# Altium schematic symbol library symbols.SchLib: 88 symbols
Pins are listed as number, name and electrical type; pins without a type are passive.

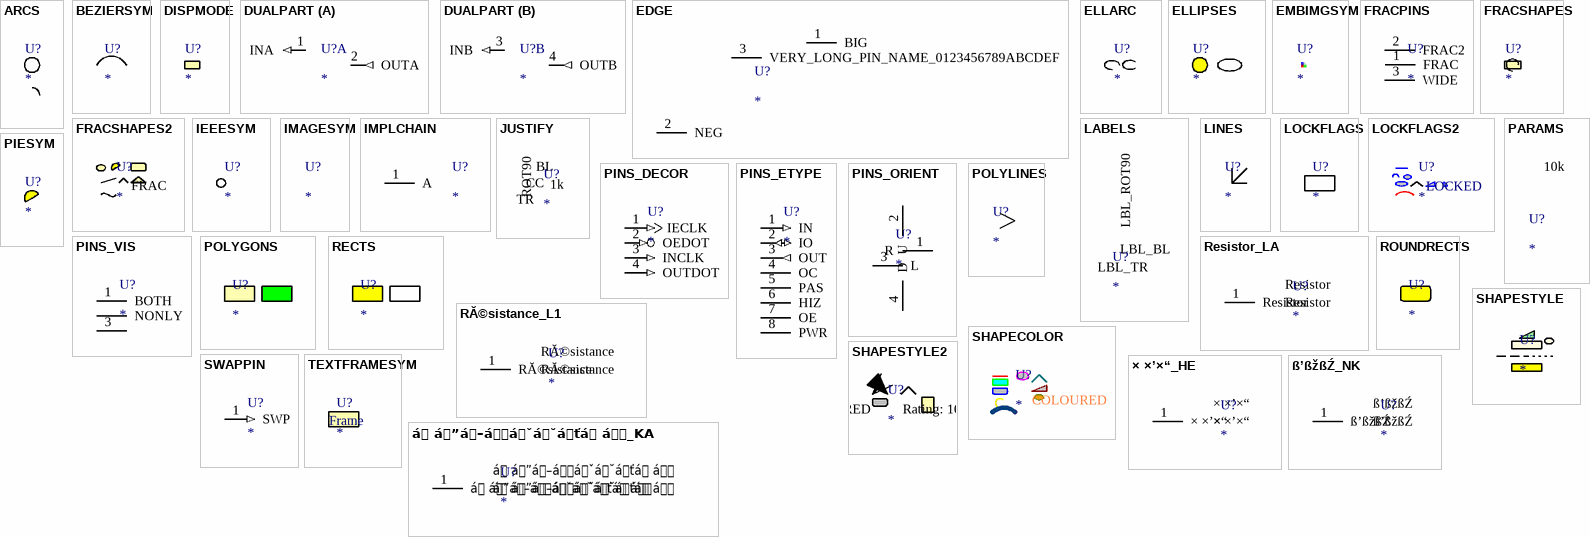
[diagram p0: symbols ARCS to á á”á–ááˇá˘áťá á_KA]

## ARCS
designator U?
Arcs: full circle + quarter

## BEZIERSYM
designator U?
Bezier curve

## DISPMODE
designator U?
Alternate display mode
1 alternate drawing of the same symbol

## DUALPART
designator U?
Dual-part test symbol
part A pins: 1 INA (in), 2 OUTA (out)
part B pins: 3 INB (in), 4 OUTB (out)

## EDGE
designator U?
Boundary-case pins
pins: 1 BIG, 2 NEG, 3 VERY_LONG_PIN_NAME_0123456789ABCDEF

## ELLARC
designator U?
Elliptical arcs

## ELLIPSES
designator U?
Ellipses: circle + ellipse

## EMBIMGSYM
designator U?
Embedded image

## FRACPINS
designator U?
Off-grid pins + symbol line width
pins: 1 FRAC, 2 FRAC2, 3 WIDE

## FRACSHAPES
designator U?
Off-grid shapes

## FRACSHAPES2
designator U?
Off-grid shapes, every other kind
text: FRAC

## IEEESYM
designator U?
IEEE symbols

## IMAGESYM
designator U?
Linked image

## IMPLCHAIN
designator U?
Footprint model links
footprint SOIC-8 (Narrow body)
footprint SOIC-8-WIDE
footprint DIP-8 (Through-hole)
pins: 1 A

## JUSTIFY
designator U?  value 1k
Label / parameter justification + rotation; Tol: 5%
text: BL; CC; TR; ROT90

## LABELS
designator U?
Text labels: justify + rotate
text: LBL_ROT90; LBL_BL; LBL_TR

## LINES
designator U?
Lines: horizontal/vertical/diagonal

## LOCKFLAGS
designator U?
Graphically locked / disabled / dimmed shape

## LOCKFLAGS2
designator U?
Graphically locked shapes
text: LOCKED

## PARAMS
designator U?  value 10k
Component parameters: visible + hidden

## PIESYM
designator U?
Filled pie sector

## PINS_DECOR
designator U?
Pin decoration symbols
pins: 1 IECLK (in), 2 OEDOT (in), 3 INCLK (in), 4 OUTDOT (in)

## PINS_ETYPE
designator U?
One pin per electrical type
pins: 1 IN (in), 2 IO (io), 3 OUT (out), 4 OC (oc), 5 PAS, 6 HIZ (hiz), 7 OE (oe), 8 PWR (power)

## PINS_ORIENT
designator U?
One pin per orientation
pins: 1 R, 2 U, 3 L, 4 D

## PINS_VIS
designator U?
Pin visibility combinations
pins: 1 BOTH, 2 NONLY, 3 DONLY, 4 HIDE hidden

## POLYGONS
designator U?
Filled polygon boxes

## POLYLINES
designator U?
Open 3-point polyline

## RECTS
designator U?
Rectangles: filled + unfilled

## Resistor_LA
designator U?  value Resistor
Script: Latin, ASCII control
pins: 1 Resistor

## ROUNDRECTS
designator U?
Rounded rectangle

## RĂ©sistance_L1
designator U?  value RĂ©sistance
Script: Latin-1 supplement, precomposed
pins: 1 RĂ©sistance

## SHAPECOLOR
designator U?
Non-default colour on every shape
text: COLOURED

## SHAPESTYLE
designator U?
Non-default line style + transparent fills

## SHAPESTYLE2
designator U?  Rating: 10V
Remaining shape styling properties
text: FRAME2; MIRRORED

## SWAPPIN
designator U?
Pin swap ids + default value
pins: 1 SWP (in)

## TEXTFRAMESYM
designator U?
Text frame
text: Frame text

## × ×’×“_HE
designator U?  value × ×’×“
Script: Hebrew, right to left
pins: 1 × ×’×“

## ß’ßžßŹ_NK
designator U?  value ß’ßžßŹ
Script: N'Ko, right to left
pins: 1 ß’ßžßŹ

## á á”á–ááˇá˘áťá á_KA
designator U?  value á á”á–ááˇá˘áťá á
Script: Georgian
pins: 1 á á”á–ááˇá˘áťá á

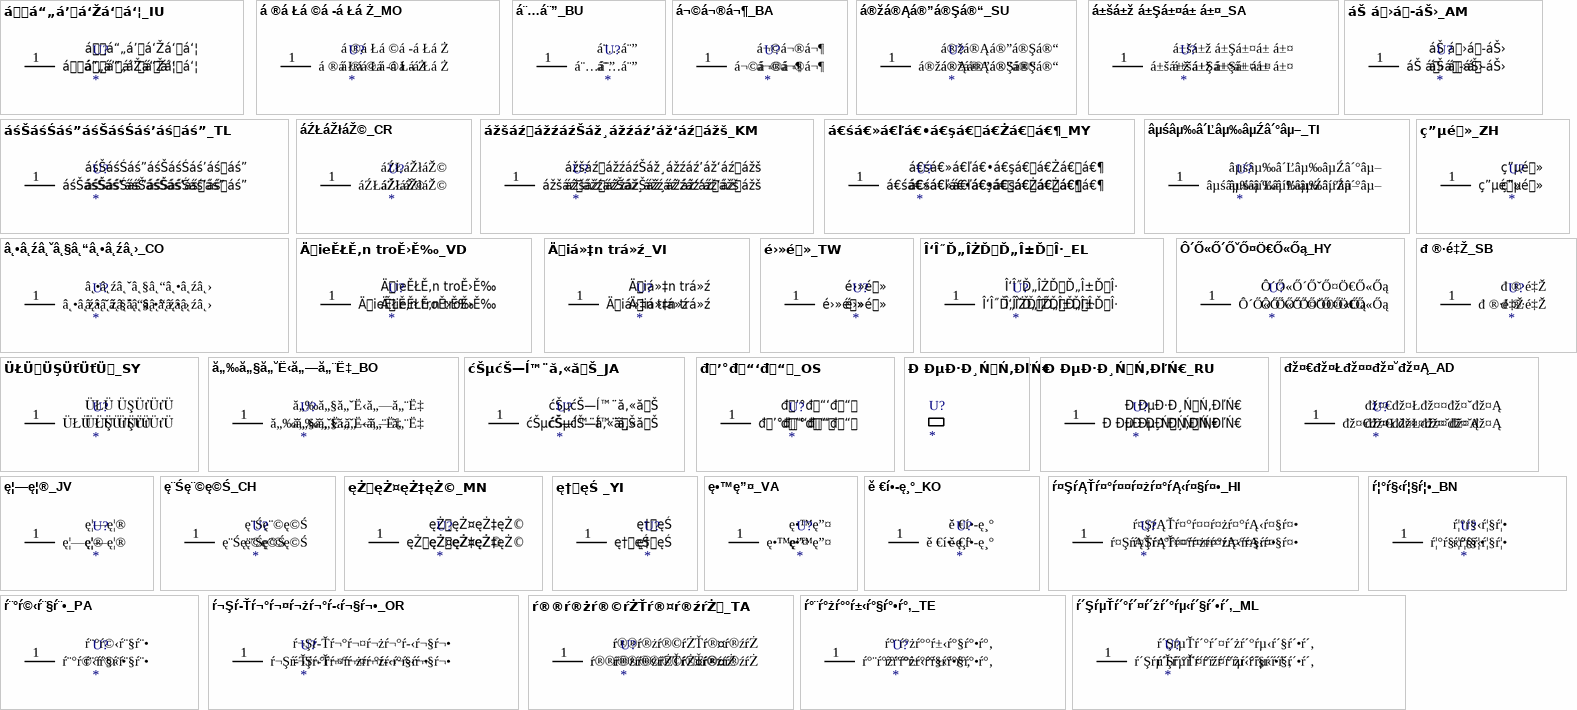
[diagram p1: symbols áá“„á’á‘Žá‘á‘¦_IU to ŕ´ŞŕµŤŕ´°ŕ´¤ŕ´żŕ´°ŕµ‹ŕ´§ŕ´•ŕ´‚_ML]

## áá“„á’á‘Žá‘á‘¦_IU
designator U?  value áá“„á’á‘Žá‘á‘¦
Script: Canadian Aboriginal Syllabics, Inuktitut
pins: 1 áá“„á’á‘Žá‘á‘¦
text: áá“„á’á‘Žá‘á‘|

## á ®á Łá ©á ­á Łá Ż_MO
designator U?  value á ®á Łá ©á ­á Łá Ż
Script: Mongolian, written vertically
pins: 1 á ®á Łá ©á ­á Łá Ż

## á¨…á¨”_BU
designator U?  value á¨…á¨”
Script: Buginese, Lontara
pins: 1 á¨…á¨”

## á¬©á¬®á¬¶_BA
designator U?  value á¬©á¬®á¬¶
Script: Balinese
pins: 1 á¬©á¬®á¬¶

## á®žá®Ąá®”á®Şá®“_SU
designator U?  value á®žá®Ąá®”á®Şá®“
Script: Sundanese
pins: 1 á®žá®Ąá®”á®Şá®“

## á±šá±ž á±Şá±¤á± á±¤_SA
designator U?  value á±šá±ž á±Şá±¤á± á±¤
Script: Ol Chiki, Santali
pins: 1 á±šá±ž á±Şá±¤á± á±¤

## áśŠáśŚáś”áśŠáśŚáś’áśáś”_TL
designator U?  value áśŠáśŚáś”áśŠáśŚáś’áśáś”
Script: Tagalog, Baybayin
pins: 1 áśŠáśŚáś”áśŠáśŚáś’áśáś”

## áŠ á›á­áŠ›_AM
designator U?  value áŠ á›á­áŠ›
Script: Ethiopic, Amharic
pins: 1 áŠ á›á­áŠ›

## áŹŁáŽłáŽ©_CR
designator U?  value áŹŁáŽłáŽ©
Script: Cherokee
pins: 1 áŹŁáŽłáŽ©

## ážšáźážźáźŠáž¸ážźáź’áž‘áźážš_KM
designator U?  value ážšáźážźáźŠáž¸ážźáź’áž‘áźážš
Script: Khmer, stacked consonants
pins: 1 ážšáźážźáźŠáž¸ážźáź’áž‘áźážš

## á€śá€»á€ľá€•á€şá€á€Żá€á€¶_MY
designator U?  value á€śá€»á€ľá€•á€şá€á€Żá€á€¶
Script: Myanmar
pins: 1 á€śá€»á€ľá€•á€şá€á€Żá€á€¶

## âµśâµ‰â´Ľâµ‰âµŹâ´°âµ–_TI
designator U?  value âµśâµ‰â´Ľâµ‰âµŹâ´°âµ–
Script: Tifinagh, Berber
pins: 1 âµśâµ‰â´Ľâµ‰âµŹâ´°âµ–

## â˛•â˛źâ˛ˇâ˛§â˛“â˛•â˛źâ˛›_CO
designator U?  value â˛•â˛źâ˛ˇâ˛§â˛“â˛•â˛źâ˛›
Script: Coptic
pins: 1 â˛•â˛źâ˛ˇâ˛§â˛“â˛•â˛źâ˛›

## ÄieĚŁĚ‚n troĚ›Ě‰_VD
designator U?  value ÄieĚŁĚ‚n troĚ›Ě‰
Script: Latin, Vietnamese decomposed (NFD)
pins: 1 ÄieĚŁĚ‚n troĚ›Ě‰

## Äiá»‡n trá»ź_VI
designator U?  value Äiá»‡n trá»ź
Script: Latin, Vietnamese diacritic stacking (NFC)
pins: 1 Äiá»‡n trá»ź

## ç”µé»_ZH
designator U?  value ç”µé»
Script: Han, simplified
pins: 1 ç”µé»

## é›»é»_TW
designator U?  value é›»é»
Script: Han, traditional
pins: 1 é›»é»

## Î‘Î˝Ď„ÎŻĎĎ„Î±ĎÎ·_EL
designator U?  value Î‘Î˝Ď„ÎŻĎĎ„Î±ĎÎ·
Script: Greek
pins: 1 Î‘Î˝Ď„ÎŻĎĎ„Î±ĎÎ·

## Ô´Ő«Ő´ŐˇŐ¤Ö€Ő«Őą_HY
designator U?  value Ô´Ő«Ő´ŐˇŐ¤Ö€Ő«Őą
Script: Armenian
pins: 1 Ô´Ő«Ő´ŐˇŐ¤Ö€Ő«Őą

## ÜŁÜÜŞÜťÜťÜ_SY
designator U?  value ÜŁÜÜŞÜťÜťÜ
Script: Syriac, right to left
pins: 1 ÜŁÜÜŞÜťÜťÜ

## ă„‰ă„§ă„˘Ë‹ă„—ă„¨Ë‡_BO
designator U?  value ă„‰ă„§ă„˘Ë‹ă„—ă„¨Ë‡
Script: Bopomofo
pins: 1 ă„‰ă„§ă„˘Ë‹ă„—ă„¨Ë‡

## ćŠµćŠ—ĺ™¨ă‚«ăŠ_JA
designator U?  value ćŠµćŠ—ĺ™¨ă‚«ăŠ
Script: Japanese, kanji and kana
pins: 1 ćŠµćŠ—ĺ™¨ă‚«ăŠ

## đ’°đ“‘đ“_OS
designator U?  value đ’°đ“‘đ“
Script: Osage beyond the BMP
pins: 1 đ’°đ“‘đ“

## đ ®·é‡Ž_SB
designator U?  value đ ®·é‡Ž
Script: Han beyond the BMP: surrogate pair
pins: 1 đ ®·é‡Ž

## Đ ĐµĐ·Đ¸ŃŃ‚ĐľŃ€
designator U?
ĐľĐżĐ¸ŃĐ°Đ˝Đ¸Đµ Î©

## Đ ĐµĐ·Đ¸ŃŃ‚ĐľŃ€_RU
designator U?  value Đ ĐµĐ·Đ¸ŃŃ‚ĐľŃ€
Script: Cyrillic
pins: 1 Đ ĐµĐ·Đ¸ŃŃ‚ĐľŃ€

## đž¤€đž¤Łđž¤¤đž¤˘đž¤Ą_AD
designator U?  value đž¤€đž¤Łđž¤¤đž¤˘đž¤Ą
Script: Adlam beyond the BMP, right to left
pins: 1 đž¤€đž¤Łđž¤¤đž¤˘đž¤Ą

## ę¦—ę¦®_JV
designator U?  value ę¦—ę¦®
Script: Javanese
pins: 1 ę¦—ę¦®
text: ę|—ę|®

## ę¨Śę¨©ę©Ś_CH
designator U?  value ę¨Śę¨©ę©Ś
Script: Cham
pins: 1 ę¨Śę¨©ę©Ś

## ęŻęŻ¤ęŻ‡ęŻ©_MN
designator U?  value ęŻęŻ¤ęŻ‡ęŻ©
Script: Meetei Mayek, Manipuri
pins: 1 ęŻęŻ¤ęŻ‡ęŻ©

## ę†ęŚ _YI
designator U?  value ę†ęŚ
Script: Yi
pins: 1 ę†ęŚ 

## ę•™ę”¤_VA
designator U?  value ę•™ę”¤
Script: Vai
pins: 1 ę•™ę”¤

## ě €í•­ę¸°_KO
designator U?  value ě €í•­ę¸°
Script: Hangul
pins: 1 ě €í•­ę¸°

## ŕ¤ŞŕĄŤŕ¤°ŕ¤¤ŕ¤żŕ¤°ŕĄ‹ŕ¤§ŕ¤•_HI
designator U?  value ŕ¤ŞŕĄŤŕ¤°ŕ¤¤ŕ¤żŕ¤°ŕĄ‹ŕ¤§ŕ¤•
Script: Devanagari, combining marks
pins: 1 ŕ¤ŞŕĄŤŕ¤°ŕ¤¤ŕ¤żŕ¤°ŕĄ‹ŕ¤§ŕ¤•

## ŕ¦°ŕ§‹ŕ¦§ŕ¦•_BN
designator U?  value ŕ¦°ŕ§‹ŕ¦§ŕ¦•
Script: Bengali
pins: 1 ŕ¦°ŕ§‹ŕ¦§ŕ¦•
text: ŕ|°ŕ§‹ŕ|§ŕ|•

## ŕ¨°ŕ©‹ŕ¨§ŕ¨•_PA
designator U?  value ŕ¨°ŕ©‹ŕ¨§ŕ¨•
Script: Gurmukhi
pins: 1 ŕ¨°ŕ©‹ŕ¨§ŕ¨•

## ŕ¬Şŕ­Ťŕ¬°ŕ¬¤ŕ¬żŕ¬°ŕ­‹ŕ¬§ŕ¬•_OR
designator U?  value ŕ¬Şŕ­Ťŕ¬°ŕ¬¤ŕ¬żŕ¬°ŕ­‹ŕ¬§ŕ¬•
Script: Odia
pins: 1 ŕ¬Şŕ­Ťŕ¬°ŕ¬¤ŕ¬żŕ¬°ŕ­‹ŕ¬§ŕ¬•

## ŕ®®ŕ®żŕ®©ŕŻŤŕ®¤ŕ®źŕŻ_TA
designator U?  value ŕ®®ŕ®żŕ®©ŕŻŤŕ®¤ŕ®źŕŻ
Script: Tamil
pins: 1 ŕ®®ŕ®żŕ®©ŕŻŤŕ®¤ŕ®źŕŻ

## ŕ°¨ŕ°żŕ°°ŕ±‹ŕ°§ŕ°•ŕ°‚_TE
designator U?  value ŕ°¨ŕ°żŕ°°ŕ±‹ŕ°§ŕ°•ŕ°‚
Script: Telugu, zero-width joiner
pins: 1 ŕ°¨ŕ°żŕ°°ŕ±‹ŕ°§ŕ°•ŕ°‚

## ŕ´ŞŕµŤŕ´°ŕ´¤ŕ´żŕ´°ŕµ‹ŕ´§ŕ´•ŕ´‚_ML
designator U?  value ŕ´ŞŕµŤŕ´°ŕ´¤ŕ´żŕ´°ŕµ‹ŕ´§ŕ´•ŕ´‚
Script: Malayalam
pins: 1 ŕ´ŞŕµŤŕ´°ŕ´¤ŕ´żŕ´°ŕµ‹ŕ´§ŕ´•ŕ´‚

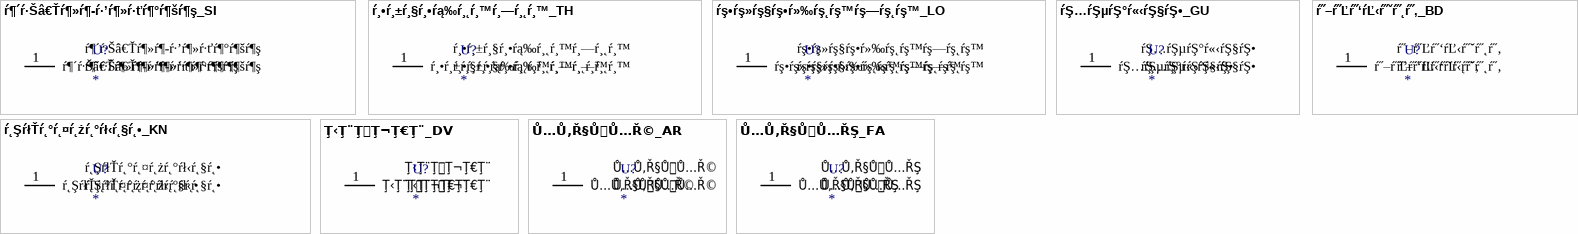
[diagram p2: symbols ŕ¶´ŕ·Šâ€Ťŕ¶»ŕ¶­ŕ·’ŕ¶»ŕ·ťŕ¶°ŕ¶šŕ¶ş_SI to Ů…Ů‚Ř§ŮŮ…ŘŞ_FA]

## ŕ¶´ŕ·Šâ€Ťŕ¶»ŕ¶­ŕ·’ŕ¶»ŕ·ťŕ¶°ŕ¶šŕ¶ş_SI
designator U?  value ŕ¶´ŕ·Šâ€Ťŕ¶»ŕ¶­ŕ·’ŕ¶»ŕ·ťŕ¶°ŕ¶šŕ¶ş
Script: Sinhala
pins: 1 ŕ¶´ŕ·Šâ€Ťŕ¶»ŕ¶­ŕ·’ŕ¶»ŕ·ťŕ¶°ŕ¶šŕ¶ş

## ŕ¸•ŕ¸±ŕ¸§ŕ¸•ŕą‰ŕ¸˛ŕ¸™ŕ¸—ŕ¸˛ŕ¸™_TH
designator U?  value ŕ¸•ŕ¸±ŕ¸§ŕ¸•ŕą‰ŕ¸˛ŕ¸™ŕ¸—ŕ¸˛ŕ¸™
Script: Thai, no word spacing
pins: 1 ŕ¸•ŕ¸±ŕ¸§ŕ¸•ŕą‰ŕ¸˛ŕ¸™ŕ¸—ŕ¸˛ŕ¸™

## ŕş•ŕş»ŕş§ŕş•ŕ»‰ŕş˛ŕş™ŕş—ŕş˛ŕş™_LO
designator U?  value ŕş•ŕş»ŕş§ŕş•ŕ»‰ŕş˛ŕş™ŕş—ŕş˛ŕş™
Script: Lao
pins: 1 ŕş•ŕş»ŕş§ŕş•ŕ»‰ŕş˛ŕş™ŕş—ŕş˛ŕş™

## ŕŞ…ŕŞµŕŞ°ŕ«‹ŕŞ§ŕŞ•_GU
designator U?  value ŕŞ…ŕŞµŕŞ°ŕ«‹ŕŞ§ŕŞ•
Script: Gujarati
pins: 1 ŕŞ…ŕŞµŕŞ°ŕ«‹ŕŞ§ŕŞ•

## ŕ˛ŞŕłŤŕ˛°ŕ˛¤ŕ˛żŕ˛°ŕł‹ŕ˛§ŕ˛•_KN
designator U?  value ŕ˛ŞŕłŤŕ˛°ŕ˛¤ŕ˛żŕ˛°ŕł‹ŕ˛§ŕ˛•
Script: Kannada
pins: 1 ŕ˛ŞŕłŤŕ˛°ŕ˛¤ŕ˛żŕ˛°ŕł‹ŕ˛§ŕ˛•

## ŕ˝–ŕ˝Ľŕ˝‘ŕĽ‹ŕ˝ˇŕ˝˛ŕ˝‚_BD
designator U?  value ŕ˝–ŕ˝Ľŕ˝‘ŕĽ‹ŕ˝ˇŕ˝˛ŕ˝‚
Script: Tibetan
pins: 1 ŕ˝–ŕ˝Ľŕ˝‘ŕĽ‹ŕ˝ˇŕ˝˛ŕ˝‚

## Ţ‹Ţ¨ŢŢ¬Ţ€Ţ¨_DV
designator U?  value Ţ‹Ţ¨ŢŢ¬Ţ€Ţ¨
Script: Thaana, right to left
pins: 1 Ţ‹Ţ¨ŢŢ¬Ţ€Ţ¨

## Ů…Ů‚Ř§ŮŮ…Ř©_AR
designator U?  value Ů…Ů‚Ř§ŮŮ…Ř©
Script: Arabic, right to left
pins: 1 Ů…Ů‚Ř§ŮŮ…Ř©

## Ů…Ů‚Ř§ŮŮ…ŘŞ_FA
designator U?  value Ů…Ů‚Ř§ŮŮ…ŘŞ
Script: Arabic, Persian letters
pins: 1 Ů…Ů‚Ř§ŮŮ…ŘŞ